# EAGLE library part MICROMATCH-6 (library apbteam_con-amp-micromatch)
MicroMaTch 6
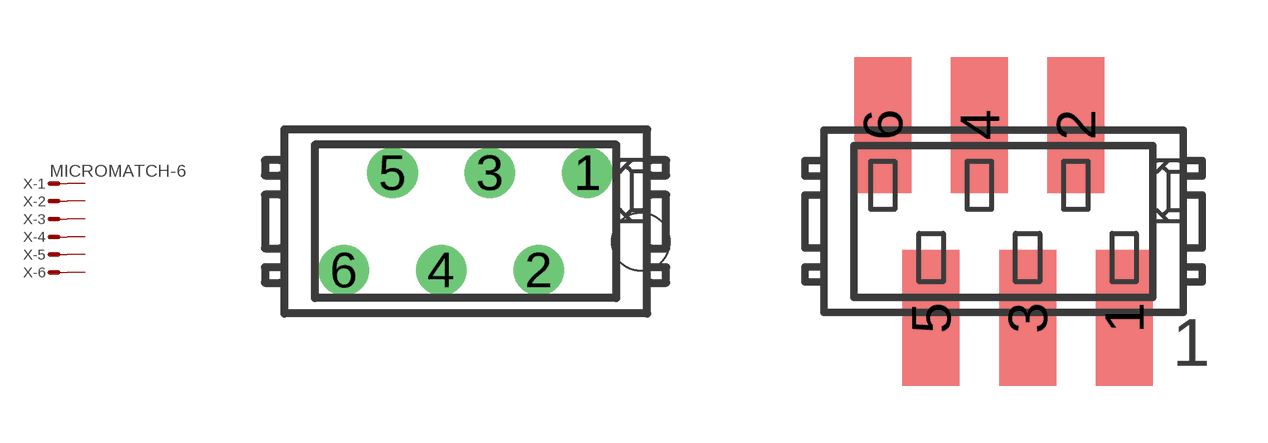
[diagram p0: symbol with the pads of MICROMATCH-6; footprints MICROMATCH-6, MICROMATCH-6-SMD]

Designator prefix X; gates -1=MV -2=M -3=M -4=M -5=M -6=M

## MICROMATCH-6  [MICROMATCH-6]
1  -1:S  pas
2  -2:S  pas
3  -3:S  pas
4  -4:S  pas
5  -5:S  pas
6  -6:S  pas

## MICROMATCH-6-SMD  [MICROMATCH-6-SMD]
Pads as for MICROMATCH-6

## MICROMATCH-6-SIDE  [MICROMATCH-6-SIDE]
Pads as for MICROMATCH-6

## Footprint MICROMATCH-6 (pad centres in mm)
MicroMaTch 6 7-215464-6 / 0-215464-6
drill 0.813 round: 1 3.175,1.27; 2 1.905,-1.27; 3 0.635,1.27; 4 -0.635,-1.27; 5 -1.905,1.27; 6 -3.175,-1.27
hole 1.5 at 4.57,-0.53

## Footprint MICROMATCH-6-SMD (pad centres in mm)
MicroMaTch 6 SMD 7-188275-6 / 0-188275-6
smd 1.5 x 3.58: 1 3.175,-2.54; 2 1.905,2.54; 3 0.635,-2.54; 4 -0.635,2.54; 5 -1.905,-2.54; 6 -3.175,2.54

## Footprint MICROMATCH-6-SIDE (pad centres in mm)
MicroMaTch 6 Side Entry 7-215460-6 / 0-215460-6
drill 0.813 round: 1 3.175,1.27; 2 1.905,-1.27; 3 0.635,1.27; 4 -0.635,-1.27; 5 -1.905,1.27; 6 -3.175,-1.27